# Altium footprint library LPS6235_1.PcbLib: 1 footprints
Each footprint in its own frame and in the unit in brackets; x right, y up, seen from the top. Pads: shape width x height; smd on the part's side, far side on the other; paste and mask are expansions set on the pad; w line width, h text height; cw(c..) or ccw(c..) is an arc to the next point about the centre after c.
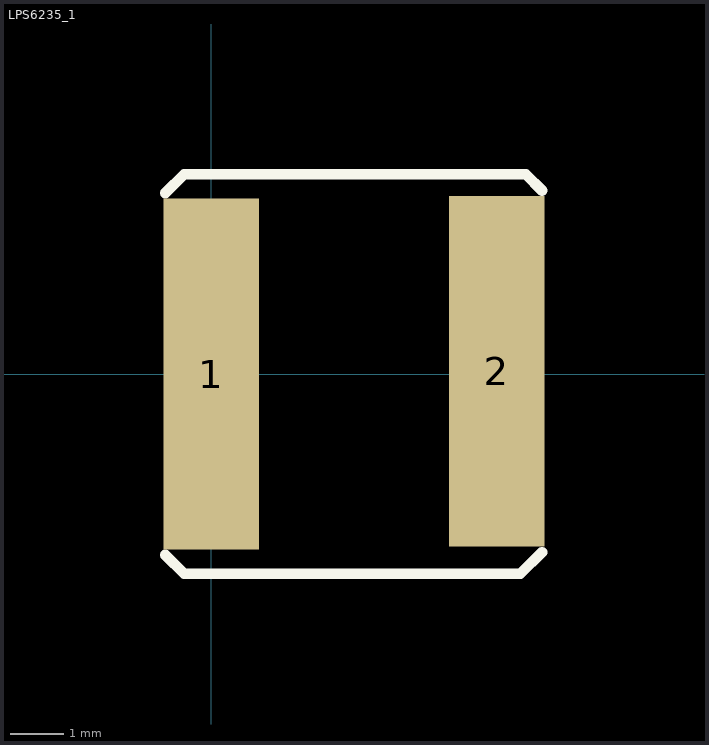
[diagram p0: the footprint, top view; thin cyan lines are the x and y axes]

## LPS6235_1 [mm] "Shielded SMT Power Inductors"
height 3.5
pads (2):
  rect 1.8x6.6 smd: 1(0,0) 2(5.375,0.051)
TopOverlay:
  lines w0.203: -0.864,-3.404 -0.508,-3.759 5.817,-3.759 6.223,-3.353 ; -0.864,3.404 -0.508,3.759 5.918,3.759 6.223,3.454